# Altium footprint library RES-001 AutoHAT V2 SD Adapter Sub-Board.PcbLib: 5 footprints
Each footprint in its own frame and in the unit in brackets; x right, y up, seen from the top. Pads: shape width x height; smd on the part's side, far side on the other; paste and mask are expansions set on the pad; w line width, h text height; cw(c..) or ccw(c..) is an arc to the next point about the centre after c.
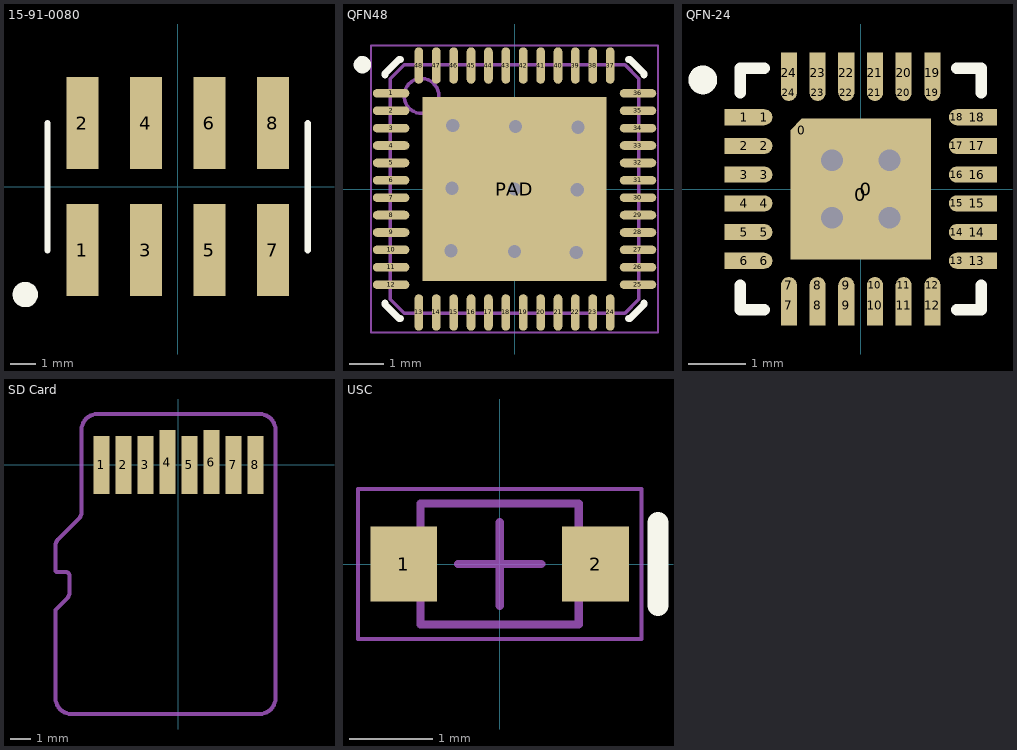
[diagram p0: the footprints below, top view; thin cyan lines are the x and y axes]

## 15-91-0080 [mil]
pads (8):
  rect 50x145 smd: 1(-150,-100) 2(-150,100) 3(-50,-100) 4(-50,100) 5(50,-100) 6(50,100) 7(150,-100) 8(150,100)
Top Overlay:
  circle w20: c-240,-170 r10
  lines w10: -205,-100 -205,100 ; 205,-100 205,100
3D body "015910080.stp": height 379.49, standoff -0.51, extent -199.99,-137.49 200.01,137.51

## QFN48 [mm]
height 1
pads (49):
  oval 1.05x0.25 smd paste-0.025: 1(-3.55,2.75) 2(-3.55,2.25) 3(-3.55,1.75) 4(-3.55,1.25) 5(-3.55,0.75) 6(-3.55,0.25) 7(-3.55,-0.25) 8(-3.55,-0.75) 9(-3.55,-1.25) 10(-3.55,-1.75) 11(-3.55,-2.25) 12(-3.55,-2.75) 25(3.55,-2.75) 26(3.55,-2.25) 27(3.55,-1.75) 28(3.55,-1.25) 29(3.55,-0.75) 30(3.55,-0.25) 31(3.55,0.25) 32(3.55,0.75) 33(3.55,1.25) 34(3.55,1.75) 35(3.55,2.25) 36(3.55,2.75)
  oval 0.25x1.05 smd paste-0.025: 13(-2.75,-3.55) 14(-2.25,-3.55) 15(-1.75,-3.55) 16(-1.25,-3.55) 17(-0.75,-3.55) 18(-0.25,-3.55) 19(0.25,-3.55) 20(0.75,-3.55) 21(1.25,-3.55) 22(1.75,-3.55) 23(2.25,-3.55) 24(2.75,-3.55) 37(2.75,3.55) 38(2.25,3.55) 39(1.75,3.55) 40(1.25,3.55) 41(0.75,3.55) 42(0.25,3.55) 43(-0.25,3.55) 44(-0.75,3.55) 45(-1.25,3.55) 46(-1.75,3.55) 47(-2.25,3.55) 48(-2.75,3.55)
  rect 5.3x5.3 smd paste-10: PAD(0,0)
via 0,-1.8 diameter 0.635 hole 0.381
via 0,0 diameter 0.635 hole 0.381
via -1.8,0.025 diameter 0.635 hole 0.381
via 1.8,-0.025 diameter 0.635 hole 0.381
via 0.025,1.8 diameter 0.635 hole 0.381
via -1.775,1.825 diameter 0.635 hole 0.381
via -1.825,-1.775 diameter 0.635 hole 0.381
via 1.775,-1.825 diameter 0.635 hole 0.381
via 1.825,1.775 diameter 0.635 hole 0.381
Top Overlay:
  circle w0.25: c-4.375,3.575 r0.125
  lines w0.2: -3.725,-3.275 -3.725,-3.325 -3.325,-3.725 -3.275,-3.725 ; -3.725,3.275 -3.725,3.325 -3.325,3.725 -3.275,3.725 ; 3.275,-3.725 3.325,-3.725 3.725,-3.325 3.725,-3.275 ; 3.275,3.725 3.325,3.725 3.725,3.325 3.725,3.275
Top Paste:
  region: 2.325,1.025 2.325,2.325 1.025,2.325 1.025,1.025
  rectangle: 1.025,-2.325 2.325,-1.025
  region: -2.325,2.325 -2.325,1.025 -1.025,1.025 -1.025,2.325
  region: -2.325,-1.025 -2.325,-2.325 -1.025,-2.325 -1.025,-1.025
  region: 0.65,2.325 -0.65,2.325 -0.65,1.025 0.65,1.025
  region: 2.325,-0.65 2.325,0.65 1.025,0.65 1.025,-0.65
  rectangle: -0.65,-2.325 0.65,-1.025
  region: -2.325,0.65 -2.325,-0.65 -1.025,-0.65 -1.025,0.65
  rectangle: -0.65,-0.65 0.65,0.65
Mechanical 13:
  circle w0.1: c-2.675,2.675 r0.5
  lines w0.1: -3.575,-3.175 -3.175,-3.575 3.175,-3.575 3.575,-3.175 3.575,3.175 3.175,3.575 -3.175,3.575 -3.575,3.175 -3.575,-3.175
Mechanical 15:
  lines w0.05: -4.125,-4.125 -4.125,4.125 4.125,4.125 4.125,-4.125 -4.125,-4.125
  lines w0.1: -0.5,0 0.5,0 ; 0,-0.5 0,0.5
3D body "QFN48.step": height 1, standoff 0, extent -3.625,-3.625 3.625,3.625

## QFN-24 [mm]
pads (51):
  rect 0.282x0.282 smd rot 45 paste-10 mask+0: 0(-1.026,1.026)
  rect 2.45x2.25 smd paste-10 mask+0: 0(0,-0.1)
  rect 2.25x2.45 smd paste-10 mask+0: 0(0.1,0)
  rect 0.7x0.28 smd paste-0.025 mask+0.08: 1(-2.025,1.25) 2(-2.025,0.75) 3(-2.025,0.25) 4(-2.025,-0.25) 5(-2.025,-0.75) 6(-2.025,-1.25) 13(2.025,-1.25) 14(2.025,-0.75) 15(2.025,-0.25) 16(2.025,0.25) 17(2.025,0.75) 18(2.025,1.25)
  round 0.28 smd mask+0.08: 1(-1.675,1.25) 2(-1.675,0.75) 3(-1.675,0.25) 4(-1.675,-0.25) 5(-1.675,-0.75) 6(-1.675,-1.25) 7(-1.25,-1.675) 8(-0.75,-1.675) 9(-0.25,-1.675) 10(0.25,-1.675) 11(0.75,-1.675) 12(1.25,-1.675) 13(1.675,-1.25) 14(1.675,-0.75) 15(1.675,-0.25) 16(1.675,0.25) 17(1.675,0.75) 18(1.675,1.25) 19(1.25,1.675) 20(0.75,1.675) 21(0.25,1.675) 22(-0.25,1.675) 23(-0.75,1.675) 24(-1.25,1.675)
  rect 0.28x0.7 smd paste-0.025 mask+0.08: 7(-1.25,-2.025) 8(-0.75,-2.025) 9(-0.25,-2.025) 10(0.25,-2.025) 11(0.75,-2.025) 12(1.25,-2.025) 19(1.25,2.025) 20(0.75,2.025) 21(0.25,2.025) 22(-0.25,2.025) 23(-0.75,2.025) 24(-1.25,2.025)
via -0.5,0.5 diameter 0.635 hole 0.381
via 0.5,0.5 diameter 0.635 hole 0.381
via 0.5,-0.5 diameter 0.635 hole 0.381
via -0.5,-0.5 diameter 0.635 hole 0.381
Top Overlay:
  circle w0.3: c-2.75,1.9 r0.1
  lines w0.2: -2.1,-1.675 -2.1,-2.1 -1.675,-2.1 ; -2.1,1.675 -2.1,2.1 -1.675,2.1 ; 1.675,-2.1 2.1,-2.1 2.1,-1.675 ; 1.675,2.1 2.1,2.1 2.1,1.675
Top Paste:
  region: -0.125,1.025 -1.025,1.025 -1.025,0.125 -0.125,0.125
  region: 1.025,0.125 1.025,1.025 0.125,1.025 0.125,0.125
  rectangle: 0.125,-1.025 1.025,-0.125
  region: -1.025,-0.125 -1.025,-1.025 -0.125,-1.025 -0.125,-0.125
Top Solder:
  region: -1.3,1.05 -1.05,1.3 1.3,1.3 1.3,-1.3 -1.3,-1.3
Mechanical 15:
  lines w0.1: -0.5,0 0.5,0 ; 0,-0.5 0,0.5
3D body: height 0.9, standoff 0, extent -1.1,-3 2.9,1

## SD Card [mm]
pads (8):
  rect 0.8x2.9 smd: 1(-3.85,0) 2(-2.75,0) 3(-1.65,0) 5(0.55,0) 7(2.75,0) 8(3.85,0)
  rect 0.8x3.2 smd: 4(-0.55,0.15) 6(1.65,0.15)
Mechanical 13:
  lines w0.2: -5.65,-5.35 cw(c-5.65,-5.55) -5.45,-5.55
  lines w0.203: -5.65,-5.35 -6.05,-5.35 cw(c-6.05,-5.25) -6.15,-5.25 -6.15,-4.016 cw(c-5.75,-4.016) -6.033,-3.733 -4.967,-2.667 ccw(c-5.25,-2.384) -4.85,-2.384 -4.85,1.75 cw(c-4.05,1.75) -4.05,2.55 4.05,2.55 cw(c4.05,1.75) 4.85,1.75 4.85,-11.65 cw(c4.05,-11.65) 4.05,-12.45 -5.35,-12.45 cw(c-5.35,-11.65) -6.15,-11.65 -6.15,-7.25 -5.567,-6.667 ; -5.567,-6.667 ccw(c-5.85,-6.384) -5.45,-6.384 -5.45,-5.55

## USC [mm]
height 1.1
pads (2):
  rect 0.8x0.9 smd: 1(-1.15,0) 2(1.15,0)
Top Overlay:
  lines w0.254: 1.9,-0.5 1.9,0.5
Mechanical 13:
  lines w0.1: -0.95,-0.725 0.95,-0.725 0.95,0.725 -0.95,0.725 -0.95,-0.725
Mechanical 15:
  lines w0.05: -1.7,-0.9 1.7,-0.9 1.7,0.9 -1.7,0.9 -1.7,-0.9
  lines w0.1: -0.5,0 0.5,0 ; 0,-0.5 0,0.5
3D body "USC.step": height 1.1, standoff 0, extent -1.25,-0.725 1.25,0.725